# EAGLE library part 690367292476 (library Wurth_Elektronik2)
WR-MM Female SMT Connector with Latch and with Polarization, 24 Pins=>Code : Con_BTB_MM_Female_SMT_690367292476 <http://katalog.we-online.de/media/thumbs2/eican/thb_Con_BTB_MM_Female_SMT_69036729xx76_pf2.jpg> Details see: http://katalog.we-online.de/en/em/6903_6729_xx_76 Created 2014-06-04, Karrer Zheng 2014 (C) Würth Elektronik
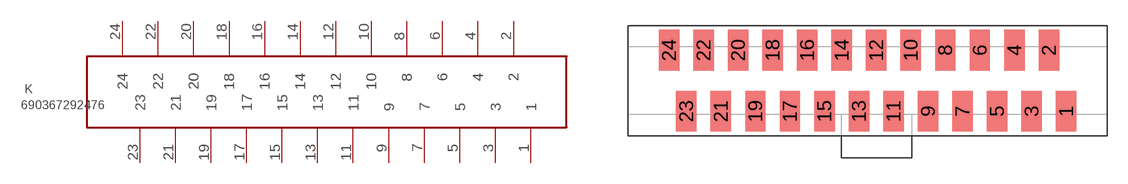
[diagram p385: symbol with the pads of 690367292476; footprint 690367292476]

Designator prefix K

## 690367292476  [690367292476]
1  1  pas
2  2  pas
3  3  pas
4  4  pas
5  5  pas
6  6  pas
7  7  pas
8  8  pas
9  9  pas
10  10  pas
11  11  pas
12  12  pas
13  13  pas
14  14  pas
15  15  pas
16  16  pas
17  17  pas
18  18  pas
19  19  pas
20  20  pas
21  21  pas
22  22  pas
23  23  pas
24  24  pas

## Footprint 690367292476 (pad centres in mm)
WR-MM Female SMT Connector with Latch and with Polarization, 24 pins
smd 1.5 x 3: 1 15.24,-2.25; 2 13.97,2.25; 3 12.7,-2.25; 4 11.43,2.25; 5 10.16,-2.25; 6 8.89,2.25; 7 7.62,-2.25; 8 6.35,2.25; 9 5.08,-2.25; 10 3.81,2.25; 11 2.54,-2.25; 12 1.27,2.25; 13 0,-2.25; 14 -1.27,2.25; 15 -2.54,-2.25; 16 -3.81,2.25; 17 -5.08,-2.25; 18 -6.35,2.25; 19 -7.62,-2.25; 20 -8.89,2.25; 21 -10.16,-2.25; 22 -11.43,2.25; 23 -12.7,-2.25; 24 -13.97,2.25